# Altium footprint library COMM_SCHPCB.PcbLib: 136 footprints (part 2 of 9)
Each footprint in its own frame and in the unit in brackets; x right, y up, seen from the top. Pads: shape width x height; smd on the part's side, far side on the other; paste and mask are expansions set on the pad; w line width, h text height; cw(c..) or ccw(c..) is an arc to the next point about the centre after c.
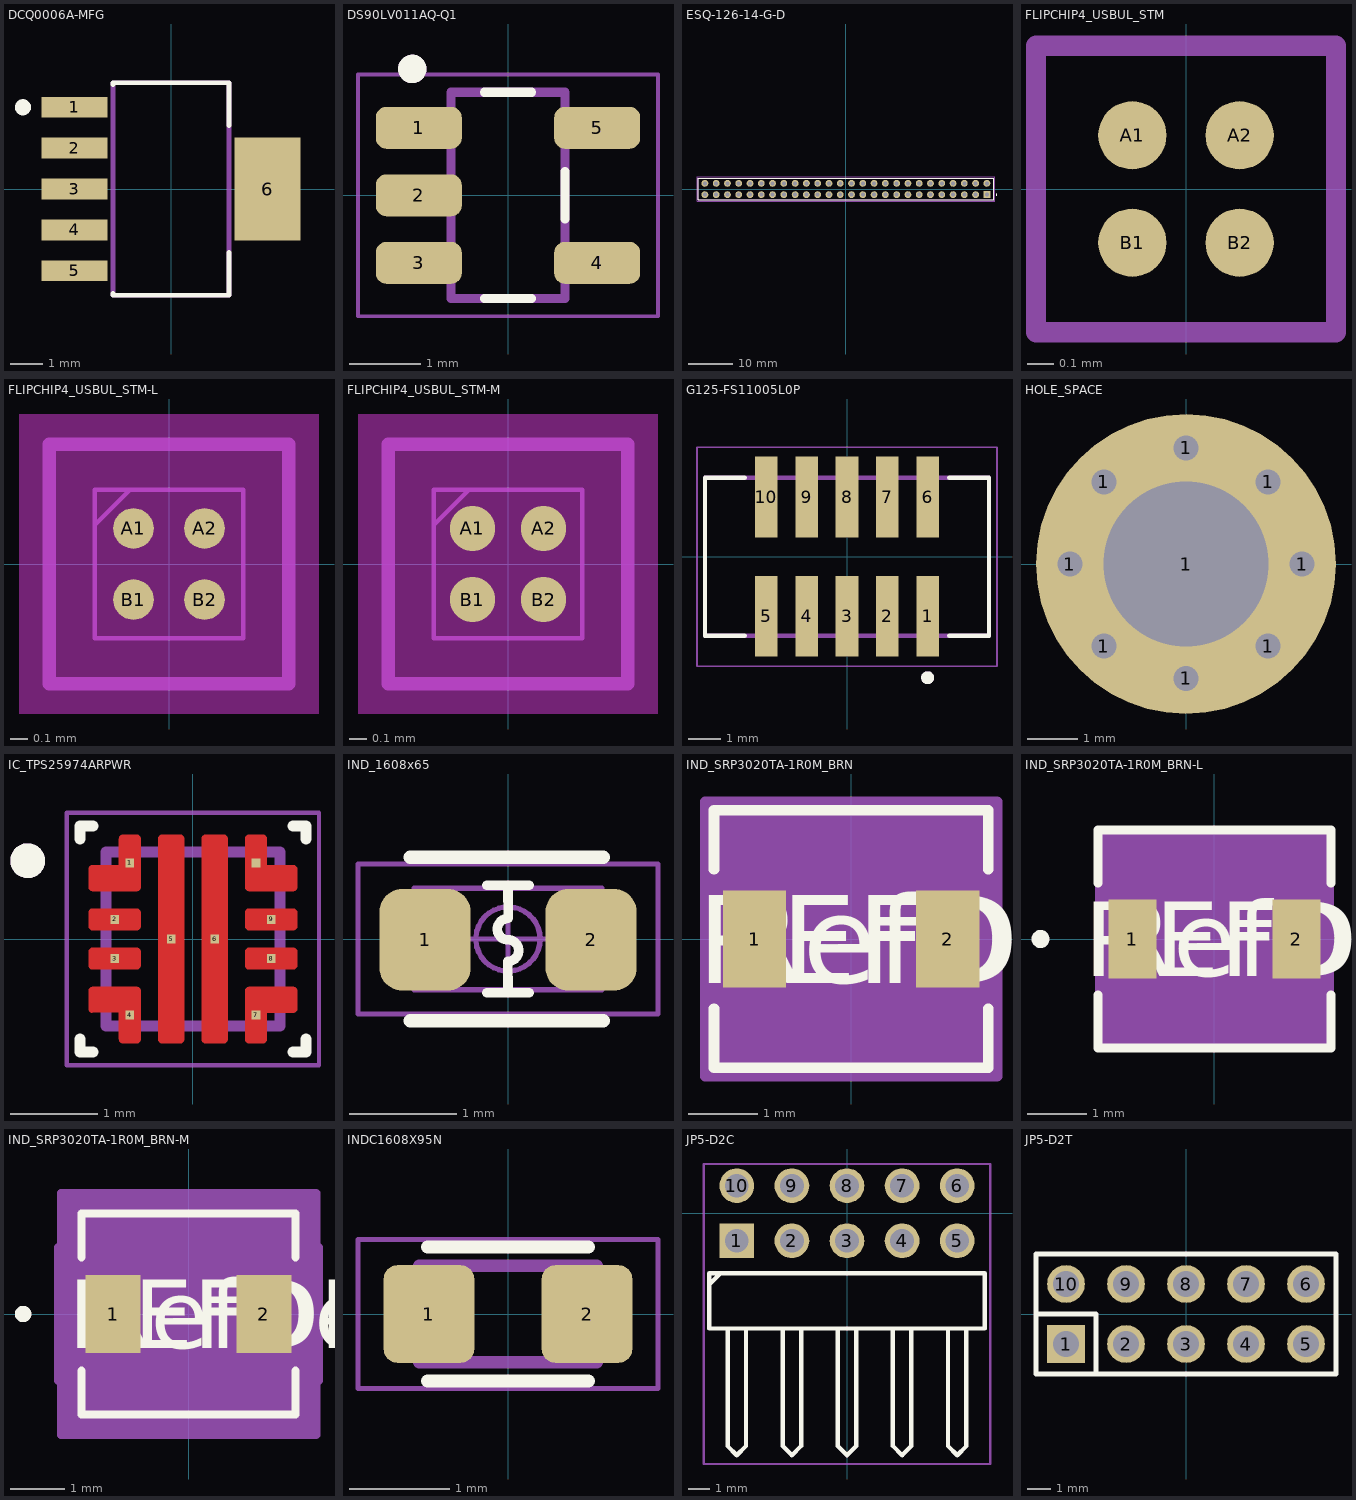
[diagram p1: the footprints below, top view; thin cyan lines are the x and y axes]

## DCQ0006A-MFG [mm]
pads (6):
  rect 2.05x0.65 smd: 1(-3,2.54) 2(-3,1.27) 3(-3,0) 4(-3,-1.27) 5(-3,-2.54)
  rect 2.05x3.2 smd: 6(3,0)
Top Overlay:
  circle w0.25: c-4.6,2.54 r0.125
  lines w0.15: -1.8,-3.24 -1.8,-3.3 1.8,-3.3 1.8,-1.975 ; -1.8,3.24 -1.8,3.3 1.8,3.3 1.8,1.975
Top Paste:
  region: 2.9,-0.15 2.9,-1.36 2.85,-1.41 2.03,-1.41 1.98,-1.36 1.98,-0.15 2.03,-0.1 2.85,-0.1
  region: 3.1,-1.36 3.1,-0.15 3.15,-0.1 3.97,-0.1 4.02,-0.15 4.02,-1.36 3.97,-1.41 3.15,-1.41
  region: 2.03,1.41 2.85,1.41 2.9,1.36 2.9,0.15 2.85,0.1 2.03,0.1 1.98,0.15 1.98,1.36
  region: 3.15,0.1 3.1,0.15 3.1,1.36 3.15,1.41 3.97,1.41 4.02,1.36 4.02,0.15 3.97,0.1
Mechanical 13:
  lines w0.15: -1.8,-3.3 -1.8,3.3 1.8,3.3 1.8,-3.3 -1.8,-3.3
3D body "DCQ0006A.stp": height 1.66, standoff 0, extent -3.554,-3.25 3.554,3.25

## DS90LV011AQ-Q1 [mm]
pads (5):
  rrect50% 1.21x0.59 smd: 1(-1.255,0.95) 2(-1.255,0) 3(-1.255,-0.95) 4(1.255,-0.95) 5(1.255,0.95)
Top Overlay:
  circle w0.2: c-1.346,1.778 r0.1
  lines w0.127: -0.33,-1.45 0.33,-1.45 ; -0.33,1.45 0.33,1.45 ; 0.8,-0.335 0.8,0.335
Mechanical 13:
  circle w0.2: c-1.346,1.778 r0.1
  lines w0.127: -0.8,-1.45 -0.8,1.45 0.8,1.45 0.8,-1.45 -0.8,-1.45
Mechanical 15:
  lines w0.05: -2.11,-1.7 2.11,-1.7 2.11,1.7 -2.11,1.7 -2.11,-1.7
3D body "step_temp.STEP": height 1.45, standoff 0, extent -1.4,-1.45 1.4,1.45

## ESQ-126-14-G-D [mm]
pads (52):
  rect 1.53x1.53 / inner round 1.53 / far side rect 1.53x1.53 hole 0.9: 01(31.75,-1.27)
  round 1.53 hole 0.9: 02(31.75,1.27) 03(29.21,-1.27) 04(29.21,1.27) 05(26.67,-1.27) 06(26.67,1.27) 07(24.13,-1.27) 08(24.13,1.27) 09(21.59,-1.27) 10(21.59,1.27) 11(19.05,-1.27) 12(19.05,1.27) 13(16.51,-1.27) 14(16.51,1.27) 15(13.97,-1.27) 16(13.97,1.27) 17(11.43,-1.27) 18(11.43,1.27) 19(8.89,-1.27) 20(8.89,1.27) 21(6.35,-1.27) 22(6.35,1.27) 23(3.81,-1.27) 24(3.81,1.27) 25(1.27,-1.27) 26(1.27,1.27) 27(-1.27,-1.27) 28(-1.27,1.27) 29(-3.81,-1.27) 30(-3.81,1.27) 31(-6.35,-1.27) 32(-6.35,1.27) 33(-8.89,-1.27) 34(-8.89,1.27) 35(-11.43,-1.27) 36(-11.43,1.27) 37(-13.97,-1.27) 38(-13.97,1.27) 39(-16.51,-1.27) 40(-16.51,1.27) 41(-19.05,-1.27) 42(-19.05,1.27) 43(-21.59,-1.27) 44(-21.59,1.27) 45(-24.13,-1.27) 46(-24.13,1.27) 47(-26.67,-1.27) 48(-26.67,1.27) 49(-29.21,-1.27) 50(-29.21,1.27) 51(-31.75,-1.27) 52(-31.75,1.27)
Top Overlay:
  circle w0.2: c33.925,-1.27 r0.1
  lines w0.2: -33.275,-2.475 -33.275,2.475 33.275,2.475 33.275,-2.475 -33.275,-2.475
Mechanical 13:
  circle w0.2: c33.925,-1.27 r0.1
  lines w0.1: -33.275,-2.475 -33.275,2.475 33.275,2.475 33.275,-2.475 -33.275,-2.475
Mechanical 15:
  lines w0.05: -33.525,-2.725 -33.525,2.725 33.525,2.725 33.525,-2.725 -33.525,-2.725
3D body "ESQ-126-14-G-D-002.stp": height 11.2, standoff -12.04, extent -33.274,-2.667 33.274,2.413

## FLIPCHIP4_USBUL_STM [mil]
pads (4):
  round 10 smd paste+0 mask+0: A1(-7.87,7.88) A2(7.87,7.88) B1(-7.87,-7.88) B2(7.87,-7.88)
Mechanical 15:
  lines w3: -22,-21 22,-21 22,21 -22,21 -22,-21
3D body "FLIPCHIP4_USBUL_STM.step": height 26.1, standoff -0.02, extent -16.5,-16.5 16.5,16.5

## FLIPCHIP4_USBUL_STM-L [mil]
pads (4):
  round 9 smd paste+0 mask+0: A1(-7.87,7.88) A2(7.87,7.88) B1(-7.87,-7.88) B2(7.87,-7.88)
Keep-Out Layer:
  region: -33.25,-33.25 -33.25,33.25 33.25,33.25 33.25,-33.25
Mechanical 13:
  lines w1: -16.5,8.62 -8.63,16.5 ; -16.5,-16.5 -16.5,16.5 16.5,16.5 16.5,-16.5 -16.5,-16.5
Mechanical 15:
  lines w3: -26.5,-26.5 26.5,-26.5 26.5,26.5 -26.5,26.5 -26.5,-26.5
3D body "FLIPCHIP4_USBUL_STM.step": height 26.1, standoff -0.02, extent -16.5,-16.5 16.5,16.5

## FLIPCHIP4_USBUL_STM-M [mil]
pads (4):
  round 10 smd paste+0 mask+0: A1(-7.87,7.88) A2(7.87,7.88) B1(-7.87,-7.88) B2(7.87,-7.88)
Keep-Out Layer:
  region: -33.25,-33.25 -33.25,33.25 33.25,33.25 33.25,-33.25
Mechanical 13:
  lines w1: -16.5,8.62 -8.63,16.5 ; -16.5,-16.5 -16.5,16.5 16.5,16.5 16.5,-16.5 -16.5,-16.5
Mechanical 15:
  lines w3: -26.5,-26.5 26.5,-26.5 26.5,26.5 -26.5,26.5 -26.5,-26.5
3D body "FLIPCHIP4_USBUL_STM.step": height 26.1, standoff -0.02, extent -16.5,-16.5 16.5,16.5

## G125-FS11005L0P [mm]
pads (10):
  rect 0.7x2.5 smd: 1(2.5,-1.85) 2(1.25,-1.85) 3(0,-1.85) 4(-1.25,-1.85) 5(-2.5,-1.85) 6(2.5,1.85) 7(1.25,1.85) 8(0,1.85) 9(-1.25,1.85) 10(-2.5,1.85)
Top Overlay:
  circle w0.2: c2.5,-3.75 r0.1
  lines w0.127: -3.17,-2.45 -4.4,-2.45 -4.4,2.45 -3.17,2.45 ; 3.17,-2.45 4.4,-2.45 4.4,2.45 3.17,2.45
Mechanical 13:
  circle w0.2: c2.5,-3.75 r0.1
  lines w0.127: -4.4,-2.45 -4.4,2.45 4.4,2.45 4.4,-2.45 -4.4,-2.45
Mechanical 15:
  lines w0.05: -4.65,-3.4 4.65,-3.4 4.65,3.4 -4.65,3.4 -4.65,-3.4
3D body "g125-fs11005l0p.stp": height 5.31, standoff -0.02, extent -4.4,-2.897 4.4,2.897

## HOLE_SPACE [mm]
pads (9):
  round 1 hole 0.5: 1(-2.325,0) 1(-1.644,-1.644) 1(-1.644,1.644) 1(0,-2.286) 1(0,2.325) 1(1.644,-1.644) 1(1.644,1.644) 1(2.325,0)
  round 6 hole 3.3: 1(0,0)

## IC_TPS25974ARPWR [mm]
pads (10):
  rect 0.1x0.1 smd paste-1 mask+0: 1(-0.725,0.875) 2(-0.9,0.225) 3(-0.9,-0.225) 4(-0.725,-0.875) 5(-0.25,0) 6(0.25,0) 7(0.725,-0.875) 8(0.9,-0.225) 9(0.9,0.225) 10(0.725,0.875)
Top Layer:
  region: -0.642,0.349 -0.64,0.349 -0.637,0.348 -0.635,0.348 -0.632,0.347 -0.63,0.346 -0.627,0.345 -0.625,0.343 -0.623,0.342 -0.621,0.34 -0.619,0.339 -0.617,0.337 -0.615,0.335 -0.613,0.333 -0.611,0.331 -0.61,0.329 -0.608,0.327 -0.607,0.325 -0.605,0.323 -0.604,0.32 -0.603,0.318 -0.602,0.315 -0.602,0.313 -0.601,0.31 -0.601,0.308 -0.6,0.305 -0.6,0.303 -0.6,0.3 -0.6,0.15 -0.6,0.147 -0.6,0.145 -0.601,0.142 -0.601,0.14 -0.602,0.137 -0.602,0.135 -0.603,0.132 -0.604,0.13 -0.605,0.127 -0.607,0.125 -0.608,0.123 -0.61,0.121 -0.611,0.119 -0.613,0.117 -0.615,0.115 -0.617,0.113 -0.619,0.111 -0.621,0.11 -0.623,0.108 -0.625,0.107 -0.627,0.105 -0.63,0.104 -0.632,0.103 -0.635,0.102 -0.637,0.102 -0.64,0.101 -0.642,0.101 -0.645,0.1 -1.155,0.1 -1.158,0.101 -1.16,0.101 -1.163,0.102 -1.165,0.102 -1.168,0.103 -1.17,0.104 -1.173,0.105 -1.175,0.107 -1.177,0.108 -1.179,0.11 -1.181,0.111 -1.183,0.113 -1.185,0.115 -1.187,0.117 -1.189,0.119 -1.19,0.121 -1.192,0.123 -1.193,0.125 -1.195,0.127 -1.196,0.13 -1.197,0.132 -1.198,0.135 -1.198,0.137 -1.199,0.14 -1.199,0.142 -1.2,0.145 -1.2,0.147 -1.2,0.15 -1.2,0.3 -1.2,0.303 -1.2,0.305 -1.199,0.308 -1.199,0.31 -1.198,0.313 -1.198,0.315 -1.197,0.318 -1.196,0.32 -1.195,0.323 -1.193,0.325 -1.192,0.327 -1.19,0.329 -1.189,0.331 -1.187,0.333 -1.185,0.335 -1.183,0.337 -1.181,0.339 -1.179,0.34 -1.177,0.342 -1.175,0.343 -1.173,0.345 -1.17,0.346 -1.168,0.347 -1.165,0.348 -1.163,0.348 -1.16,0.349 -1.158,0.349 -1.155,0.35 -0.645,0.35
  region: -0.642,-0.101 -0.64,-0.101 -0.637,-0.102 -0.635,-0.102 -0.632,-0.103 -0.63,-0.104 -0.627,-0.105 -0.625,-0.107 -0.623,-0.108 -0.621,-0.11 -0.619,-0.111 -0.617,-0.113 -0.615,-0.115 -0.613,-0.117 -0.611,-0.119 -0.61,-0.121 -0.608,-0.123 -0.607,-0.125 -0.605,-0.127 -0.604,-0.13 -0.603,-0.132 -0.602,-0.135 -0.602,-0.137 -0.601,-0.14 -0.601,-0.142 -0.6,-0.145 -0.6,-0.147 -0.6,-0.15 -0.6,-0.3 -0.6,-0.303 -0.6,-0.305 -0.601,-0.308 -0.601,-0.31 -0.602,-0.313 -0.602,-0.315 -0.603,-0.318 -0.604,-0.32 -0.605,-0.323 -0.607,-0.325 -0.608,-0.327 -0.61,-0.329 -0.611,-0.331 -0.613,-0.333 -0.615,-0.335 -0.617,-0.337 -0.619,-0.339 -0.621,-0.34 -0.623,-0.342 -0.625,-0.343 -0.627,-0.345 -0.63,-0.346 -0.632,-0.347 -0.635,-0.348 -0.637,-0.348 -0.64,-0.349 -0.642,-0.349 -0.645,-0.35 -1.155,-0.35 -1.158,-0.349 -1.16,-0.349 -1.163,-0.348 -1.165,-0.348 -1.168,-0.347 -1.17,-0.346 -1.173,-0.345 -1.175,-0.343 -1.177,-0.342 -1.179,-0.34 -1.181,-0.339 -1.183,-0.337 -1.185,-0.335 -1.187,-0.333 -1.189,-0.331 -1.19,-0.329 -1.192,-0.327 -1.193,-0.325 -1.195,-0.323 -1.196,-0.32 -1.197,-0.318 -1.198,-0.315 -1.198,-0.313 -1.199,-0.31 -1.199,-0.308 -1.2,-0.305 -1.2,-0.303 -1.2,-0.3 -1.2,-0.15 -1.2,-0.147 -1.2,-0.145 -1.199,-0.142 -1.199,-0.14 -1.198,-0.137 -1.198,-0.135 -1.197,-0.132 -1.196,-0.13 -1.195,-0.127 -1.193,-0.125 -1.192,-0.123 -1.19,-0.121 -1.189,-0.119 -1.187,-0.117 -1.185,-0.115 -1.183,-0.113 -1.181,-0.111 -1.179,-0.11 -1.177,-0.108 -1.175,-0.107 -1.173,-0.105 -1.17,-0.104 -1.168,-0.103 -1.165,-0.102 -1.163,-0.102 -1.16,-0.101 -1.158,-0.101 -1.155,-0.1 -0.645,-0.1
  region: 1.158,0.349 1.16,0.349 1.163,0.348 1.165,0.348 1.168,0.347 1.17,0.346 1.173,0.345 1.175,0.343 1.177,0.342 1.179,0.34 1.181,0.339 1.183,0.337 1.185,0.335 1.187,0.333 1.189,0.331 1.19,0.329 1.192,0.327 1.193,0.325 1.195,0.323 1.196,0.32 1.197,0.318 1.198,0.315 1.198,0.313 1.199,0.31 1.199,0.308 1.2,0.305 1.2,0.303 1.2,0.3 1.2,0.15 1.2,0.147 1.2,0.145 1.199,0.142 1.199,0.14 1.198,0.137 1.198,0.135 1.197,0.132 1.196,0.13 1.195,0.127 1.193,0.125 1.192,0.123 1.19,0.121 1.189,0.119 1.187,0.117 1.185,0.115 1.183,0.113 1.181,0.111 1.179,0.11 1.177,0.108 1.175,0.107 1.173,0.105 1.17,0.104 1.168,0.103 1.165,0.102 1.163,0.102 1.16,0.101 1.158,0.101 1.155,0.1 0.645,0.1 0.642,0.101 0.64,0.101 0.637,0.102 0.635,0.102 0.632,0.103 0.63,0.104 0.627,0.105 0.625,0.107 0.623,0.108 0.621,0.11 0.619,0.111 0.617,0.113 0.615,0.115 0.613,0.117 0.611,0.119 0.61,0.121 0.608,0.123 0.607,0.125 0.605,0.127 0.604,0.13 0.603,0.132 0.602,0.135 0.602,0.137 0.601,0.14 0.601,0.142 0.6,0.145 0.6,0.147 0.6,0.15 0.6,0.3 0.6,0.303 0.6,0.305 0.601,0.308 0.601,0.31 0.602,0.313 0.602,0.315 0.603,0.318 0.604,0.32 0.605,0.323 0.607,0.325 0.608,0.327 0.61,0.329 0.611,0.331 0.613,0.333 0.615,0.335 0.617,0.337 0.619,0.339 0.621,0.34 0.623,0.342 0.625,0.343 0.627,0.345 0.63,0.346 0.632,0.347 0.635,0.348 0.637,0.348 0.64,0.349 0.642,0.349 0.645,0.35 1.155,0.35
  region: 1.158,-0.101 1.16,-0.101 1.163,-0.102 1.165,-0.102 1.168,-0.103 1.17,-0.104 1.173,-0.105 1.175,-0.107 1.177,-0.108 1.179,-0.11 1.181,-0.111 1.183,-0.113 1.185,-0.115 1.187,-0.117 1.189,-0.119 1.19,-0.121 1.192,-0.123 1.193,-0.125 1.195,-0.127 1.196,-0.13 1.197,-0.132 1.198,-0.135 1.198,-0.137 1.199,-0.14 1.199,-0.142 1.2,-0.145 1.2,-0.147 1.2,-0.15 1.2,-0.3 1.2,-0.303 1.2,-0.305 1.199,-0.308 1.199,-0.31 1.198,-0.313 1.198,-0.315 1.197,-0.318 1.196,-0.32 1.195,-0.323 1.193,-0.325 1.192,-0.327 1.19,-0.329 1.189,-0.331 1.187,-0.333 1.185,-0.335 1.183,-0.337 1.181,-0.339 1.179,-0.34 1.177,-0.342 1.175,-0.343 1.173,-0.345 1.17,-0.346 1.168,-0.347 1.165,-0.348 1.163,-0.348 1.16,-0.349 1.158,-0.349 1.155,-0.35 0.645,-0.35 0.642,-0.349 0.64,-0.349 0.637,-0.348 0.635,-0.348 0.632,-0.347 0.63,-0.346 0.627,-0.345 0.625,-0.343 0.623,-0.342 0.621,-0.34 0.619,-0.339 0.617,-0.337 0.615,-0.335 0.613,-0.333 0.611,-0.331 0.61,-0.329 0.608,-0.327 0.607,-0.325 0.605,-0.323 0.604,-0.32 0.603,-0.318 0.602,-0.315 0.602,-0.313 0.601,-0.31 0.601,-0.308 0.6,-0.305 0.6,-0.303 0.6,-0.3 0.6,-0.15 0.6,-0.147 0.6,-0.145 0.601,-0.142 0.601,-0.14 0.602,-0.137 0.602,-0.135 0.603,-0.132 0.604,-0.13 0.605,-0.127 0.607,-0.125 0.608,-0.123 0.61,-0.121 0.611,-0.119 0.613,-0.117 0.615,-0.115 0.617,-0.113 0.619,-0.111 0.621,-0.11 0.623,-0.108 0.625,-0.107 0.627,-0.105 0.63,-0.104 0.632,-0.103 0.635,-0.102 0.637,-0.102 0.64,-0.101 0.642,-0.101 0.645,-0.1 1.155,-0.1
  region: -0.642,1.199 -0.64,1.199 -0.637,1.198 -0.635,1.198 -0.632,1.197 -0.63,1.196 -0.627,1.195 -0.625,1.193 -0.623,1.192 -0.621,1.19 -0.619,1.189 -0.617,1.187 -0.615,1.185 -0.613,1.183 -0.611,1.181 -0.61,1.179 -0.608,1.177 -0.607,1.175 -0.605,1.173 -0.604,1.17 -0.603,1.168 -0.602,1.165 -0.602,1.163 -0.601,1.16 -0.601,1.158 -0.6,1.155 -0.6,1.153 -0.6,1.15 -0.6,0.6 -0.6,0.597 -0.6,0.595 -0.601,0.592 -0.601,0.59 -0.602,0.587 -0.602,0.585 -0.603,0.582 -0.604,0.58 -0.605,0.577 -0.607,0.575 -0.608,0.573 -0.61,0.571 -0.611,0.569 -0.613,0.567 -0.615,0.565 -0.617,0.563 -0.619,0.561 -0.621,0.56 -0.623,0.558 -0.625,0.557 -0.627,0.555 -0.63,0.554 -0.632,0.553 -0.635,0.552 -0.637,0.552 -0.64,0.551 -0.642,0.551 -0.645,0.55 -1.155,0.55 -1.158,0.551 -1.16,0.551 -1.163,0.552 -1.165,0.552 -1.168,0.553 -1.17,0.554 -1.173,0.555 -1.175,0.557 -1.177,0.558 -1.179,0.56 -1.181,0.561 -1.183,0.563 -1.185,0.565 -1.187,0.567 -1.189,0.569 -1.19,0.571 -1.192,0.573 -1.193,0.575 -1.195,0.577 -1.196,0.58 -1.197,0.582 -1.198,0.585 -1.198,0.587 -1.199,0.59 -1.199,0.592 -1.2,0.595 -1.2,0.597 -1.2,0.6 -1.2,0.8 -1.2,0.803 -1.2,0.805 -1.199,0.808 -1.199,0.81 -1.198,0.813 -1.198,0.815 -1.197,0.818 -1.196,0.82 -1.195,0.823 -1.193,0.825 -1.192,0.827 -1.19,0.829 -1.189,0.831 -1.187,0.833 -1.185,0.835 -1.183,0.837 -1.181,0.839 -1.179,0.84 -1.177,0.842 -1.175,0.843 -1.173,0.845 -1.17,0.846 -1.168,0.847 -1.165,0.848 -1.163,0.848 -1.16,0.849 -1.158,0.849 -1.155,0.85 -0.85,0.85 -0.85,1.15 -0.85,1.153 -0.85,1.155 -0.849,1.158 -0.849,1.16 -0.848,1.163 -0.848,1.165 -0.847,1.168 -0.846,1.17 -0.845,1.173 -0.843,1.175 -0.842,1.177 -0.84,1.179 -0.839,1.181 -0.837,1.183 -0.835,1.185 -0.833,1.187 -0.831,1.189 -0.829,1.19 -0.827,1.192 -0.825,1.193 -0.823,1.195 -0.82,1.196 -0.818,1.197 -0.815,1.198 -0.813,1.198 -0.81,1.199 -0.808,1.199 -0.805,1.2 -0.645,1.2
  region: 1.158,-0.551 1.16,-0.551 1.163,-0.552 1.165,-0.552 1.168,-0.553 1.17,-0.554 1.173,-0.555 1.175,-0.557 1.177,-0.558 1.179,-0.56 1.181,-0.561 1.183,-0.563 1.185,-0.565 1.187,-0.567 1.189,-0.569 1.19,-0.571 1.192,-0.573 1.193,-0.575 1.195,-0.577 1.196,-0.58 1.197,-0.582 1.198,-0.585 1.198,-0.587 1.199,-0.59 1.199,-0.592 1.2,-0.595 1.2,-0.597 1.2,-0.6 1.2,-0.8 1.2,-0.803 1.2,-0.805 1.199,-0.808 1.199,-0.81 1.198,-0.813 1.198,-0.815 1.197,-0.818 1.196,-0.82 1.195,-0.823 1.193,-0.825 1.192,-0.827 1.19,-0.829 1.189,-0.831 1.187,-0.833 1.185,-0.835 1.183,-0.837 1.181,-0.839 1.179,-0.84 1.177,-0.842 1.175,-0.843 1.173,-0.845 1.17,-0.846 1.168,-0.847 1.165,-0.848 1.163,-0.848 1.16,-0.849 1.158,-0.849 1.155,-0.85 0.85,-0.85 0.85,-1.15 0.85,-1.153 0.85,-1.155 0.849,-1.158 0.849,-1.16 0.848,-1.163 0.848,-1.165 0.847,-1.168 0.846,-1.17 0.845,-1.173 0.843,-1.175 0.842,-1.177 0.84,-1.179 0.839,-1.181 0.837,-1.183 0.835,-1.185 0.833,-1.187 0.831,-1.189 0.829,-1.19 0.827,-1.192 0.825,-1.193 0.823,-1.195 0.82,-1.196 0.818,-1.197 0.815,-1.198 0.813,-1.198 0.81,-1.199 0.808,-1.199 0.805,-1.2 0.645,-1.2 0.642,-1.199 0.64,-1.199 0.637,-1.198 0.635,-1.198 0.632,-1.197 0.63,-1.196 0.627,-1.195 0.625,-1.193 0.623,-1.192 0.621,-1.19 0.619,-1.189 0.617,-1.187 0.615,-1.185 0.613,-1.183 0.611,-1.181 0.61,-1.179 0.608,-1.177 0.607,-1.175 0.605,-1.173 0.604,-1.17 0.603,-1.168 0.602,-1.165 0.602,-1.163 0.601,-1.16 0.601,-1.158 0.6,-1.155 0.6,-1.153 0.6,-1.15 0.6,-0.6 0.6,-0.597 0.6,-0.595 0.601,-0.592 0.601,-0.59 0.602,-0.587 0.602,-0.585 0.603,-0.582 0.604,-0.58 0.605,-0.577 0.607,-0.575 0.608,-0.573 0.61,-0.571 0.611,-0.569 0.613,-0.567 0.615,-0.565 0.617,-0.563 0.619,-0.561 0.621,-0.56 0.623,-0.558 0.625,-0.557 0.627,-0.555 0.63,-0.554 0.632,-0.553 0.635,-0.552 0.637,-0.552 0.64,-0.551 0.642,-0.551 0.645,-0.55 1.155,-0.55
  region: 0.808,1.199 0.81,1.199 0.813,1.198 0.815,1.198 0.818,1.197 0.82,1.196 0.823,1.195 0.825,1.193 0.827,1.192 0.829,1.19 0.831,1.189 0.833,1.187 0.835,1.185 0.837,1.183 0.839,1.181 0.84,1.179 0.842,1.177 0.843,1.175 0.845,1.173 0.846,1.17 0.847,1.168 0.848,1.165 0.848,1.163 0.849,1.16 0.849,1.158 0.85,1.155 0.85,1.153 0.85,1.15 0.85,0.85 1.155,0.85 1.158,0.849 1.16,0.849 1.163,0.848 1.165,0.848 1.168,0.847 1.17,0.846 1.173,0.845 1.175,0.843 1.177,0.842 1.179,0.84 1.181,0.839 1.183,0.837 1.185,0.835 1.187,0.833 1.189,0.831 1.19,0.829 1.192,0.827 1.193,0.825 1.195,0.823 1.196,0.82 1.197,0.818 1.198,0.815 1.198,0.813 1.199,0.81 1.199,0.808 1.2,0.805 1.2,0.803 1.2,0.8 1.2,0.6 1.2,0.597 1.2,0.595 1.199,0.592 1.199,0.59 1.198,0.587 1.198,0.585 1.197,0.582 1.196,0.58 1.195,0.577 1.193,0.575 1.192,0.573 1.19,0.571 1.189,0.569 1.187,0.567 1.185,0.565 1.183,0.563 1.181,0.561 1.179,0.56 1.177,0.558 1.175,0.557 1.173,0.555 1.17,0.554 1.168,0.553 1.165,0.552 1.163,0.552 1.16,0.551 1.158,0.551 1.155,0.55 0.645,0.55 0.642,0.551 0.64,0.551 0.637,0.552 0.635,0.552 0.632,0.553 0.63,0.554 0.627,0.555 0.625,0.557 0.623,0.558 0.621,0.56 0.619,0.561 0.617,0.563 0.615,0.565 0.613,0.567 0.611,0.569 0.61,0.571 0.608,0.573 0.607,0.575 0.605,0.577 0.604,0.58 0.603,0.582 0.602,0.585 0.602,0.587 0.601,0.59 0.601,0.592 0.6,0.595 0.6,0.597 0.6,0.6 0.6,1.15 0.6,1.153 0.6,1.155 0.601,1.158 0.601,1.16 0.602,1.163 0.602,1.165 0.603,1.168 0.604,1.17 0.605,1.173 0.607,1.175 0.608,1.177 0.61,1.179 0.611,1.181 0.613,1.183 0.615,1.185 0.617,1.187 0.619,1.189 0.621,1.19 0.623,1.192 0.625,1.193 0.627,1.195 0.63,1.196 0.632,1.197 0.635,1.198 0.637,1.198 0.64,1.199 0.642,1.199 0.645,1.2 0.805,1.2
  region: -0.642,-0.551 -0.64,-0.551 -0.637,-0.552 -0.635,-0.552 -0.632,-0.553 -0.63,-0.554 -0.627,-0.555 -0.625,-0.557 -0.623,-0.558 -0.621,-0.56 -0.619,-0.561 -0.617,-0.563 -0.615,-0.565 -0.613,-0.567 -0.611,-0.569 -0.61,-0.571 -0.608,-0.573 -0.607,-0.575 -0.605,-0.577 -0.604,-0.58 -0.603,-0.582 -0.602,-0.585 -0.602,-0.587 -0.601,-0.59 -0.601,-0.592 -0.6,-0.595 -0.6,-0.597 -0.6,-0.6 -0.6,-1.15 -0.6,-1.153 -0.6,-1.155 -0.601,-1.158 -0.601,-1.16 -0.602,-1.163 -0.602,-1.165 -0.603,-1.168 -0.604,-1.17 -0.605,-1.173 -0.607,-1.175 -0.608,-1.177 -0.61,-1.179 -0.611,-1.181 -0.613,-1.183 -0.615,-1.185 -0.617,-1.187 -0.619,-1.189 -0.621,-1.19 -0.623,-1.192 -0.625,-1.193 -0.627,-1.195 -0.63,-1.196 -0.632,-1.197 -0.635,-1.198 -0.637,-1.198 -0.64,-1.199 -0.642,-1.199 -0.645,-1.2 -0.805,-1.2 -0.808,-1.199 -0.81,-1.199 -0.813,-1.198 -0.815,-1.198 -0.818,-1.197 -0.82,-1.196 -0.823,-1.195 -0.825,-1.193 -0.827,-1.192 -0.829,-1.19 -0.831,-1.189 -0.833,-1.187 -0.835,-1.185 -0.837,-1.183 -0.839,-1.181 -0.84,-1.179 -0.842,-1.177 -0.843,-1.175 -0.845,-1.173 -0.846,-1.17 -0.847,-1.168 -0.848,-1.165 -0.848,-1.163 -0.849,-1.16 -0.849,-1.158 -0.85,-1.155 -0.85,-1.153 -0.85,-1.15 -0.85,-0.85 -1.155,-0.85 -1.158,-0.849 -1.16,-0.849 -1.163,-0.848 -1.165,-0.848 -1.168,-0.847 -1.17,-0.846 -1.173,-0.845 -1.175,-0.843 -1.177,-0.842 -1.179,-0.84 -1.181,-0.839 -1.183,-0.837 -1.185,-0.835 -1.187,-0.833 -1.189,-0.831 -1.19,-0.829 -1.192,-0.827 -1.193,-0.825 -1.195,-0.823 -1.196,-0.82 -1.197,-0.818 -1.198,-0.815 -1.198,-0.813 -1.199,-0.81 -1.199,-0.808 -1.2,-0.805 -1.2,-0.803 -1.2,-0.8 -1.2,-0.6 -1.2,-0.597 -1.2,-0.595 -1.199,-0.592 -1.199,-0.59 -1.198,-0.587 -1.198,-0.585 -1.197,-0.582 -1.196,-0.58 -1.195,-0.577 -1.193,-0.575 -1.192,-0.573 -1.19,-0.571 -1.189,-0.569 -1.187,-0.567 -1.185,-0.565 -1.183,-0.563 -1.181,-0.561 -1.179,-0.56 -1.177,-0.558 -1.175,-0.557 -1.173,-0.555 -1.17,-0.554 -1.168,-0.553 -1.165,-0.552 -1.163,-0.552 -1.16,-0.551 -1.158,-0.551 -1.155,-0.55 -0.645,-0.55
  region: -0.142,1.199 -0.14,1.199 -0.137,1.198 -0.135,1.198 -0.132,1.197 -0.13,1.196 -0.127,1.195 -0.125,1.193 -0.123,1.192 -0.121,1.19 -0.119,1.189 -0.117,1.187 -0.115,1.185 -0.113,1.183 -0.111,1.181 -0.11,1.179 -0.108,1.177 -0.107,1.175 -0.105,1.173 -0.104,1.17 -0.103,1.168 -0.102,1.165 -0.102,1.163 -0.101,1.16 -0.101,1.158 -0.1,1.155 -0.1,1.153 -0.1,1.15 -0.1,-1.15 -0.1,-1.153 -0.1,-1.155 -0.101,-1.158 -0.101,-1.16 -0.102,-1.163 -0.102,-1.165 -0.103,-1.168 -0.104,-1.17 -0.105,-1.173 -0.107,-1.175 -0.108,-1.177 -0.11,-1.179 -0.111,-1.181 -0.113,-1.183 -0.115,-1.185 -0.117,-1.187 -0.119,-1.189 -0.121,-1.19 -0.123,-1.192 -0.125,-1.193 -0.127,-1.195 -0.13,-1.196 -0.132,-1.197 -0.135,-1.198 -0.137,-1.198 -0.14,-1.199 -0.142,-1.199 -0.145,-1.2 -0.355,-1.2 -0.358,-1.199 -0.36,-1.199 -0.363,-1.198 -0.365,-1.198 -0.368,-1.197 -0.37,-1.196 -0.373,-1.195 -0.375,-1.193 -0.377,-1.192 -0.379,-1.19 -0.381,-1.189 -0.383,-1.187 -0.385,-1.185 -0.387,-1.183 -0.389,-1.181 -0.39,-1.179 -0.392,-1.177 -0.393,-1.175 -0.395,-1.173 -0.396,-1.17 -0.397,-1.168 -0.398,-1.165 -0.398,-1.163 -0.399,-1.16 -0.399,-1.158 -0.4,-1.155 -0.4,-1.153 -0.4,-1.15 -0.4,1.15 -0.4,1.153 -0.4,1.155 -0.399,1.158 -0.399,1.16 -0.398,1.163 -0.398,1.165 -0.397,1.168 -0.396,1.17 -0.395,1.173 -0.393,1.175 -0.392,1.177 -0.39,1.179 -0.389,1.181 -0.387,1.183 -0.385,1.185 -0.383,1.187 -0.381,1.189 -0.379,1.19 -0.377,1.192 -0.375,1.193 -0.373,1.195 -0.37,1.196 -0.368,1.197 -0.365,1.198 -0.363,1.198 -0.36,1.199 -0.358,1.199 -0.355,1.2 -0.145,1.2
  region: 0.358,1.199 0.36,1.199 0.363,1.198 0.365,1.198 0.368,1.197 0.37,1.196 0.373,1.195 0.375,1.193 0.377,1.192 0.379,1.19 0.381,1.189 0.383,1.187 0.385,1.185 0.387,1.183 0.389,1.181 0.39,1.179 0.392,1.177 0.393,1.175 0.395,1.173 0.396,1.17 0.397,1.168 0.398,1.165 0.398,1.163 0.399,1.16 0.399,1.158 0.4,1.155 0.4,1.153 0.4,1.15 0.4,-1.15 0.4,-1.153 0.4,-1.155 0.399,-1.158 0.399,-1.16 0.398,-1.163 0.398,-1.165 0.397,-1.168 0.396,-1.17 0.395,-1.173 0.393,-1.175 0.392,-1.177 0.39,-1.179 0.389,-1.181 0.387,-1.183 0.385,-1.185 0.383,-1.187 0.381,-1.189 0.379,-1.19 0.377,-1.192 0.375,-1.193 0.373,-1.195 0.37,-1.196 0.368,-1.197 0.365,-1.198 0.363,-1.198 0.36,-1.199 0.358,-1.199 0.355,-1.2 0.145,-1.2 0.142,-1.199 0.14,-1.199 0.137,-1.198 0.135,-1.198 0.132,-1.197 0.13,-1.196 0.127,-1.195 0.125,-1.193 0.123,-1.192 0.121,-1.19 0.119,-1.189 0.117,-1.187 0.115,-1.185 0.113,-1.183 0.111,-1.181 0.11,-1.179 0.108,-1.177 0.107,-1.175 0.105,-1.173 0.104,-1.17 0.103,-1.168 0.102,-1.165 0.102,-1.163 0.101,-1.16 0.101,-1.158 0.1,-1.155 0.1,-1.153 0.1,-1.15 0.1,1.15 0.1,1.153 0.1,1.155 0.101,1.158 0.101,1.16 0.102,1.163 0.102,1.165 0.103,1.168 0.104,1.17 0.105,1.173 0.107,1.175 0.108,1.177 0.11,1.179 0.111,1.181 0.113,1.183 0.115,1.185 0.117,1.187 0.119,1.189 0.121,1.19 0.123,1.192 0.125,1.193 0.127,1.195 0.13,1.196 0.132,1.197 0.135,1.198 0.137,1.198 0.14,1.199 0.142,1.199 0.145,1.2 0.355,1.2
Top Overlay:
  circle w0.2: c-1.9,0.9 r0.1
  lines w0.127: -1.3,-1.15 -1.3,-1.3 -1.15,-1.3 ; -1.3,1.15 -1.3,1.3 -1.15,1.3 ; 1.15,-1.3 1.3,-1.3 1.3,-1.15 ; 1.15,1.3 1.3,1.3 1.3,1.15
Top Paste:
  drawing of 12 lines, arcs and shapes, not listed
Top Solder:
  drawing of 10 lines, arcs and shapes, not listed
Mechanical 13:
  circle w0.2: c-1.9,0.9 r0.1
  lines w0.127: -1,-1 -1,1 1,1 1,-1 -1,-1
Mechanical 15:
  lines w0.05: -1.45,-1.45 -1.45,1.45 1.45,1.45 1.45,-1.45 -1.45,-1.45
3D body "step_temp.STEP": height 1, standoff 0, extent -1,-1 1,1

## IND_1608x65 [mm]
pads (2):
  rrect50% 0.85x0.95 smd: 1(-0.775,-0.008) 2(0.775,-0.008)
Top Overlay:
  lines w0.089: -0.2,-0.5 0.2,-0.5 ; -0.2,0.5 0.2,0.5 ; -0.003,-0.208 0,-0.483 ; 0,-0.208 ccw(c0,-0.108) 0,-0.008 cw(c0,0.092) 0,0.192 ; 0,0.483 0.003,0.192
  lines w0.125: -0.911,-0.762 0.889,-0.762 ; -0.911,0.762 0.889,0.762
Top Courtyard:
  lines w0.05: -1.4,-0.7 -1.4,0.7 1.4,0.7 1.4,-0.7 -1.4,-0.7
Top Component Outline:
  lines w0.05: -0.875,-0.475 0.875,-0.475 ; -0.875,0.475 0.875,0.475
Top Component Center:
  circle w0.05: c0,0 r0.3
  lines w0.05: -0.5,0 0.5,0 ; 0,-0.5 0,0.5
3D body "BEADC1608X95N.step": height 0.8, standoff 0, extent -0.806,-0.477 0.794,0.473

## IND_SRP3020TA-1R0M_BRN [mil]
pads (2):
  rect 36x55 smd paste+0 mask+0: 1(-54.83,0) 2(54.83,0)
Top Overlay:
  lines w6: -77.83,-39.61 -77.83,-73 77.83,-73 77.83,-39.61 ; -77.83,39.61 -77.83,73 77.83,73 77.83,39.61
  text "RefDes" at -75,-25 h50
  text "REFDES" at -87.5,-25 h50
Mechanical 13:
  lines w1: -72.83,-68 -72.83,68 72.83,68 72.83,-68 -72.83,-68
  text "RefDes2" at -87.5,-25 h50
Mechanical 15:
  region: -82.83,-37.5 -82.83,37.5 -82.83,78 82.83,78 82.83,37.5 82.83,-37.5 82.83,-78 -82.83,-78
  lines w6: -82.83,-78 82.83,-78 82.83,-37.5 82.83,37.5 82.83,78 -82.83,78 -82.83,37.5 -82.83,-37.5 -82.83,-78
3D body "IND_SRP3020TA-1R0M_BRN.step": height 79.09, standoff 0, extent -72.83,-67.99 72.83,67.99

## IND_SRP3020TA-1R0M_BRN-L [mil]
pads (2):
  rect 32x53 smd paste+0 mask+0: 1(-54.83,0) 2(54.83,0)
Top Overlay:
  circle w6: c-116.33,0 r3
  lines w6: -77.83,-37.57 -77.83,-73 77.83,-73 77.83,-37.57 ; -77.83,37.57 -77.83,73 77.83,73 77.83,37.57
  text "REFDES" at -87.5,-25 h50
  text "RefDes" at -75,-25 h50
Mechanical 13:
  circle w0: c0,0 r3
  lines w1: -72.83,-68 72.83,-68 72.83,68 -72.83,68 -72.83,-68
  text "RefDes2" at -87.5,-25 h50
Mechanical 15:
  region: -76.83,-30.5 -76.83,30.5 -76.83,72 76.83,72 76.83,30.5 76.83,-30.5 76.83,-72 -76.83,-72
  lines w6: -76.83,-72 -76.83,-30.5 -76.83,30.5 -76.83,72 76.83,72 76.83,30.5 76.83,-30.5 76.83,-72 -76.83,-72
3D body "IND_SRP3020TA-1R0M_BRN.step": height 79.09, standoff 0, extent -72.83,-67.99 72.83,67.99

## IND_SRP3020TA-1R0M_BRN-M [mil]
pads (2):
  rect 40x57 smd paste+0 mask+0: 1(-54.83,0) 2(54.83,0)
Top Overlay:
  circle w6: c-120.33,0 r3
  lines w6: -77.83,-41.25 -77.83,-73 77.83,-73 77.83,-41.25 ; -77.83,41.25 -77.83,73 77.83,73 77.83,41.25
  text "RefDes" at -75,-25 h50
  text "REFDES" at -87.5,-25 h50
Mechanical 13:
  circle w0: c0,0 r3
  lines w1: -72.83,-68 -72.83,68 72.83,68 72.83,-68 -72.83,-68
  text "RefDes2" at -87.5,-25 h50
Mechanical 15:
  region: -92.83,-48.5 -94.83,-48.5 -94.83,48.5 -92.83,48.5 -92.83,88 92.83,88 92.83,48.5 94.83,48.5 94.83,-48.5 92.83,-48.5 92.83,-88 -92.83,-88
  lines w6: -94.83,-48.5 -92.83,-48.5 -92.83,-88 92.83,-88 92.83,-48.5 94.83,-48.5 94.83,48.5 92.83,48.5 92.83,88 -92.83,88 -92.83,48.5 -94.83,48.5 -94.83,-48.5
3D body "IND_SRP3020TA-1R0M_BRN.step": height 79.09, standoff 0, extent -72.83,-67.99 72.83,67.99

## INDC1608X95N [mm]
pads (2):
  rrect30% 0.9x0.97 smd: 1(-0.785,0) 2(0.785,0)
Top Overlay:
  lines w0.127: -0.8,-0.665 0.8,-0.665 ; -0.8,0.665 0.8,0.665
Mechanical 13:
  lines w0.127: -0.88,-0.48 -0.88,0.48 0.88,0.48 0.88,-0.48 -0.88,-0.48
Mechanical 15:
  lines w0.05: -1.49,-0.74 1.49,-0.74 1.49,0.74 -1.49,0.74 -1.49,-0.74
3D body "step_temp.STEP": height 0.95, standoff 0, extent -0.8,-0.4 0.8,0.4

## JP5-D2C [mm] "10 pins, dual row, right angled, gold plating"
height 5.08
pads (10):
  rect 1.6x1.6 hole 1.1: 1(-5.08,-1.27)
  round 1.6 hole 1.1: 2(-2.54,-1.27) 3(0,-1.27) 4(2.54,-1.27) 5(5.08,-1.27) 6(5.08,1.27) 7(2.54,1.27) 8(0,1.27) 9(-2.54,1.27) 10(-5.08,1.27)
Top Overlay:
  lines w0.2: -6.308,-3.236 -5.884,-2.812 ; -5.503,-5.335 -5.503,-10.729 -5.08,-11.152 -4.657,-10.729 -4.657,-5.31 ; -2.963,-5.335 -2.963,-10.729 -2.54,-11.152 -2.117,-10.729 -2.117,-5.335 ; -0.423,-5.335 -0.423,-10.729 0,-11.152 0.423,-10.729 0.423,-5.31 ; 2.117,-5.335 2.117,-10.729 2.54,-11.152 2.963,-10.729 2.963,-5.335 ; 4.657,-5.335 4.657,-10.729 5.08,-11.152 5.503,-10.729 5.503,-5.31 ; -6.35,-5.31 -6.35,-2.77 6.35,-2.77 6.35,-5.31 -6.35,-5.31
Mechanical 15:
  lines w0.1: -6.6,-11.56 6.6,-11.56 6.6,2.27 -6.6,2.27 -6.6,-11.56
3D body "61301021021.stp": height 5.09, standoff -2.99, extent -6.35,-11.334 6.35,1.566

## JP5-D2T [mm] "10 pins, dual pin, straight, gold plating"
height 8.54
pads (10):
  rect 1.6x1.6 hole 1.1: 1(-5.08,-1.27)
  round 1.6 hole 1.1: 2(-2.54,-1.27) 3(0,-1.27) 4(2.54,-1.27) 5(5.08,-1.27) 6(5.08,1.27) 7(2.54,1.27) 8(0,1.27) 9(-2.54,1.27) 10(-5.08,1.27)
Top Overlay:
  lines w0.2: -6.35,0 -3.81,0 -3.81,-2.54 ; -6.35,-2.54 6.35,-2.54 6.35,2.54 -1.27,2.54 -6.35,2.54 -6.35,-2.54
3D body "61301021121.stp": height 8.55, standoff -2.99, extent -6.35,-2.54 6.35,2.54